# EAGLE library part STD043F19X1 (library con-pinheader-standard)
female standard header 2mm, 4.3mm height
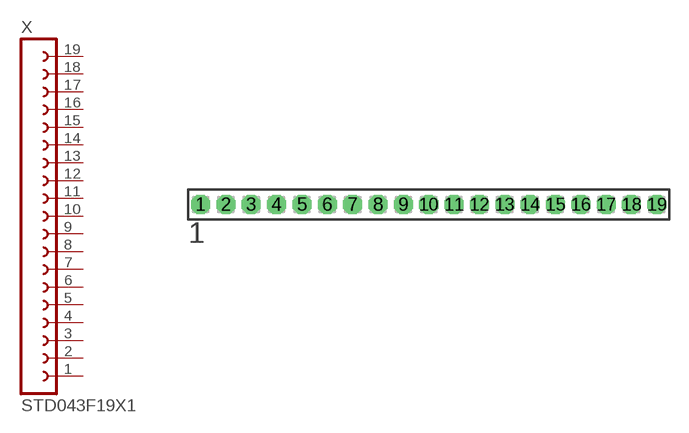
[diagram p13: symbol with the pads of STD043F19X1-2.00; footprint STD043F19X1-2.00]

Designator prefix X

## STD043F19X1-2.00MM (OC_FARNELL: unknown; OC_NEWARK: unknown)  [STD043F19X1-2.00]
1  1  pas
2  2  pas
3  3  pas
4  4  pas
5  5  pas
6  6  pas
7  7  pas
8  8  pas
9  9  pas
10  10  pas
11  11  pas
12  12  pas
13  13  pas
14  14  pas
15  15  pas
16  16  pas
17  17  pas
18  18  pas
19  19  pas

## Footprint STD043F19X1-2.00 (pad centres in mm)
female standard header 2mm, 4.3mm height
drill 0.8 pad 1.5 octagon: 1 -18,0; 2 -16,0; 3 -14,0; 4 -12,0; 5 -10,0; 6 -8,0; 7 -6,0; 8 -4,0; 9 -2,0; 10 0,0; 11 2,0; 12 4,0; 13 6,0; 14 8,0; 15 10,0; 16 12,0; 17 14,0; 18 16,0; 19 18,0